# Altium schematic symbol library IC_MCP4921.SchLib: 1 symbol
Pins are listed as number, name and electrical type; pins without a type are passive.

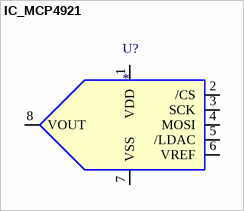
[diagram p0: symbol IC_MCP4921]

## IC_MCP4921
designator U?
pins: 1 VDD, 2 /CS, 3 SCK, 4 MOSI, 5 /LDAC, 6 VREF, 7 VSS, 8 VOUT